# Altium footprint library Components - 26.08.25 - 14.51.PcbLib: 3 footprints
Each footprint in its own frame and in the unit in brackets; x right, y up, seen from the top. Pads: shape width x height; smd on the part's side, far side on the other; paste and mask are expansions set on the pad; w line width, h text height; cw(c..) or ccw(c..) is an arc to the next point about the centre after c.
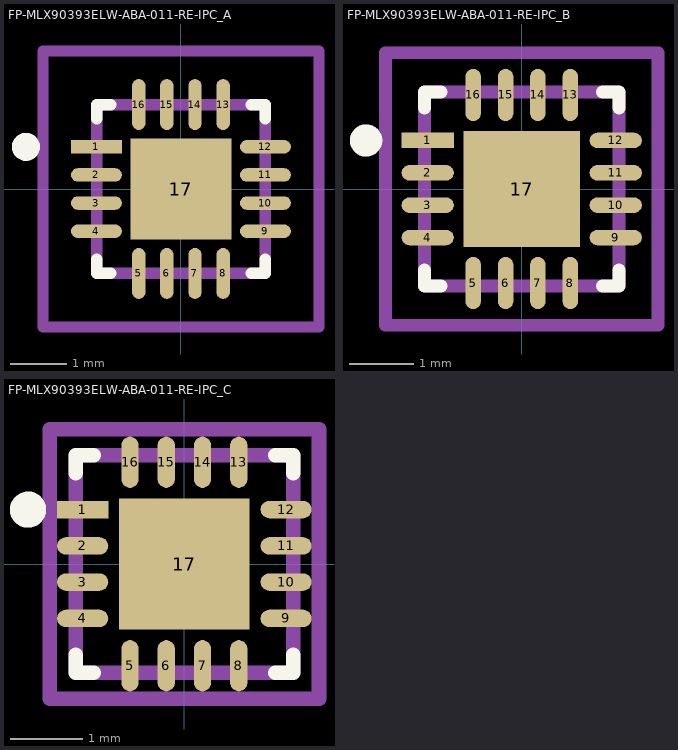
[diagram p0: the footprints below, top view; thin cyan lines are the x and y axes]

## FP-MLX90393ELW-ABA-011-RE-IPC_A [mm]
pads (17):
  rect 0.906x0.239 smd paste+0 mask+0: 1(-1.503,0.75)
  rrect100% 0.906x0.239 smd paste+0 mask+0: 2(-1.503,0.25) 3(-1.503,-0.25) 4(-1.503,-0.75) 9(1.503,-0.75) 10(1.503,-0.25) 11(1.503,0.25) 12(1.503,0.75)
  rrect100% 0.239x0.906 smd paste+0 mask+0: 5(-0.75,-1.503) 6(-0.25,-1.503) 7(0.25,-1.503) 8(0.75,-1.503) 13(0.75,1.503) 14(0.25,1.503) 15(-0.25,1.503) 16(-0.75,1.503)
  rect 1.8x1.8 smd paste-1000 mask+0: 17(0,0)
Top Overlay:
  circle w0.25: c-2.756,0.75 r0.125
  lines w0.2: -1.5,-1.25 -1.5,-1.5 -1.25,-1.5 ; -1.5,1.25 -1.5,1.5 -1.25,1.5 ; 1.25,-1.5 1.5,-1.5 1.5,-1.25 ; 1.25,1.5 1.5,1.5 1.5,1.25
Top Paste:
  rectangle: -0.569,-0.569 0.569,0.569
Top Assembly:
  lines w0.2: -2.456,-2.456 2.456,-2.456 2.456,2.456 -2.456,2.456 -2.456,-2.456
  text ".Designator" at 0,0.188 h1
Top 3D Body:
  lines w0.2: -1.5,-1.5 1.5,-1.5 1.5,1.5 -1.5,1.5 -1.5,-1.5
Top Courtyard:
  lines w0.2: -2.456,-2.456 2.456,-2.456 2.456,2.456 -2.456,2.456 -2.456,-2.456
Top Component Center:
  lines w0.1: -0.5,0 0.5,0 ; 0,-0.5 0,0.5
3D body "IC_Melexis_MLX90393ELW-ABA-011-RE_eec.STEP": height 0.25, standoff 0, extent -2.456,-2.456 2.456,2.456

## FP-MLX90393ELW-ABA-011-RE-IPC_B [mm]
pads (17):
  rect 0.806x0.239 smd paste+0 mask+0: 1(-1.453,0.75)
  rrect100% 0.806x0.239 smd paste+0 mask+0: 2(-1.453,0.25) 3(-1.453,-0.25) 4(-1.453,-0.75) 9(1.453,-0.75) 10(1.453,-0.25) 11(1.453,0.25) 12(1.453,0.75)
  rrect100% 0.239x0.806 smd paste+0 mask+0: 5(-0.75,-1.453) 6(-0.25,-1.453) 7(0.25,-1.453) 8(0.75,-1.453) 13(0.75,1.453) 14(0.25,1.453) 15(-0.25,1.453) 16(-0.75,1.453)
  rect 1.8x1.8 smd paste-1000 mask+0: 17(0,0)
Top Overlay:
  circle w0.25: c-2.406,0.75 r0.125
  lines w0.2: -1.5,-1.25 -1.5,-1.5 -1.25,-1.5 ; -1.5,1.25 -1.5,1.5 -1.25,1.5 ; 1.25,-1.5 1.5,-1.5 1.5,-1.25 ; 1.25,1.5 1.5,1.5 1.5,1.25
Top Paste:
  rectangle: -0.569,-0.569 0.569,0.569
Top Assembly:
  lines w0.2: -2.106,-2.106 2.106,-2.106 2.106,2.106 -2.106,2.106 -2.106,-2.106
  text ".Designator" at 0,0.188 h1
Top 3D Body:
  lines w0.2: -1.5,-1.5 1.5,-1.5 1.5,1.5 -1.5,1.5 -1.5,-1.5
Top Courtyard:
  lines w0.2: -2.106,-2.106 2.106,-2.106 2.106,2.106 -2.106,2.106 -2.106,-2.106
Top Component Center:
  lines w0.1: -0.5,0 0.5,0 ; 0,-0.5 0,0.5
3D body "IC_Melexis_MLX90393ELW-ABA-011-RE_eec.STEP": height 0.25, standoff 0, extent -2.106,-2.106 2.106,2.106

## FP-MLX90393ELW-ABA-011-RE-IPC_C [mm]
pads (17):
  rect 0.706x0.239 smd paste+0 mask+0: 1(-1.403,0.75)
  rrect100% 0.706x0.239 smd paste+0 mask+0: 2(-1.403,0.25) 3(-1.403,-0.25) 4(-1.403,-0.75) 9(1.403,-0.75) 10(1.403,-0.25) 11(1.403,0.25) 12(1.403,0.75)
  rrect100% 0.239x0.706 smd paste+0 mask+0: 5(-0.75,-1.403) 6(-0.25,-1.403) 7(0.25,-1.403) 8(0.75,-1.403) 13(0.75,1.403) 14(0.25,1.403) 15(-0.25,1.403) 16(-0.75,1.403)
  rect 1.8x1.8 smd paste-1000 mask+0: 17(0,0)
Top Overlay:
  circle w0.25: c-2.156,0.75 r0.125
  lines w0.2: -1.5,-1.25 -1.5,-1.5 -1.25,-1.5 ; -1.5,1.25 -1.5,1.5 -1.25,1.5 ; 1.25,-1.5 1.5,-1.5 1.5,-1.25 ; 1.25,1.5 1.5,1.5 1.5,1.25
Top Paste:
  rectangle: -0.569,-0.569 0.569,0.569
Top Assembly:
  lines w0.2: -1.856,-1.856 1.856,-1.856 1.856,1.856 -1.856,1.856 -1.856,-1.856
  text ".Designator" at 0,0.188 h1
Top 3D Body:
  lines w0.2: -1.5,-1.5 1.5,-1.5 1.5,1.5 -1.5,1.5 -1.5,-1.5
Top Courtyard:
  lines w0.2: -1.856,-1.856 1.856,-1.856 1.856,1.856 -1.856,1.856 -1.856,-1.856
Top Component Center:
  lines w0.1: -0.5,0 0.5,0 ; 0,-0.5 0,0.5
3D body "IC_Melexis_MLX90393ELW-ABA-011-RE_eec.STEP": height 0.25, standoff 0, extent -1.856,-1.856 1.856,1.856